# EAGLE library part 7495 (library be_logic)
edited: Mario Blunk / Blunk electronic
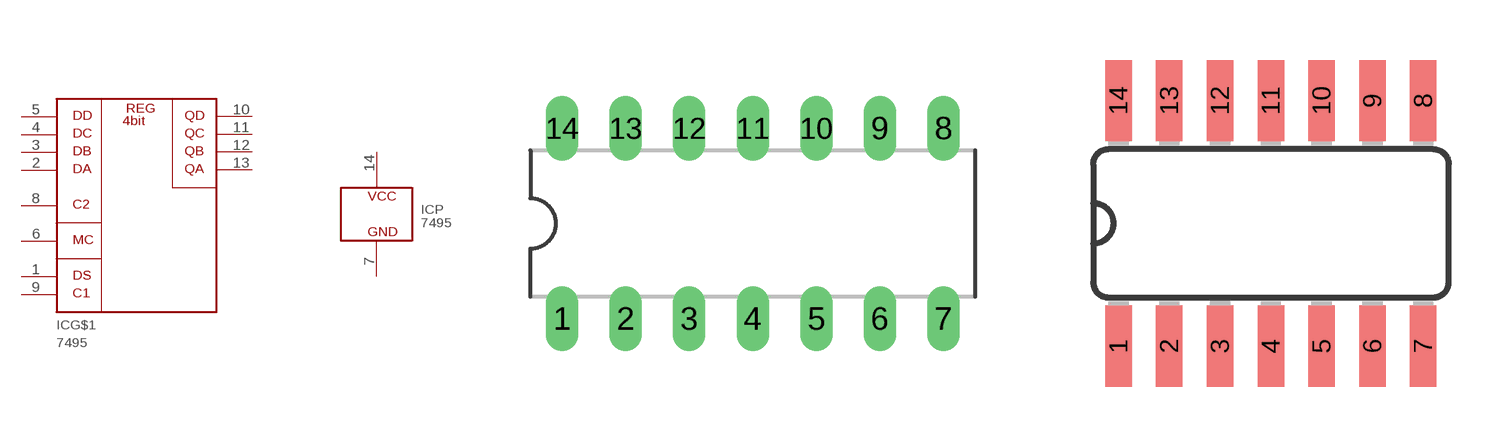
[diagram p3: symbol with the pads of T_NDIP14; footprints T_NDIP14, S_SO14]

Designator prefix IC; gates G$1=7495 P=PWR

## 7495N (BOM: YES; COMMISSIONED: 2015-05-19; PART_CODE_BEL: IC_PAC_T_NDIP14_VAL_x74x95N; UPDATED: 2018-09-16)  [T_NDIP14]
1  G$1:DS  in
2  G$1:DA  in
3  G$1:DB  in
4  G$1:DC  in
5  G$1:DD  in
6  G$1:MC  in
7  P:GND  pwr
8  G$1:C2  in
9  G$1:C1  in
10  G$1:QD  out
11  G$1:QC  out
12  G$1:QB  out
13  G$1:QA  out
14  P:VCC  pwr

## 7495D  [S_SO14]
Pads as for T_NDIP14

## Footprint T_NDIP14 (pad centres in mm)
edited: Mario Blunk / Blunk electronic date: 2013-05-06
drill 0.8 long: 1 -7.62,-3.81; 2 -5.08,-3.81; 3 -2.54,-3.81; 4 0,-3.81; 5 2.54,-3.81; 6 5.08,-3.81; 7 7.62,-3.81; 8 7.62,3.81; 9 5.08,3.81; 10 2.54,3.81; 11 0,3.81; 12 -2.54,3.81; 13 -5.08,3.81; 14 -7.62,3.81

## Footprint S_SO14 (pad centres in mm)
edited: Mario Blunk / Blunk electronic date: 2013-05-06
smd 0.66 x 2.032: 1 -3.81,-3.073; 2 -2.54,-3.073; 3 -1.27,-3.073; 4 0,-3.073; 5 1.27,-3.073; 6 2.54,-3.073; 7 3.81,-3.073; 8 3.81,3.073; 9 2.54,3.073; 10 1.27,3.073; 11 0,3.073; 12 -1.27,3.073; 13 -2.54,3.073; 14 -3.81,3.073